# EAGLE library part BMI270 (library BGM220S)
IMU ACCEL/GYRO I2C/SPI 14LGA Check prices <https://pricing.snapeda.com/search/part/BMI270/?ref=eda>
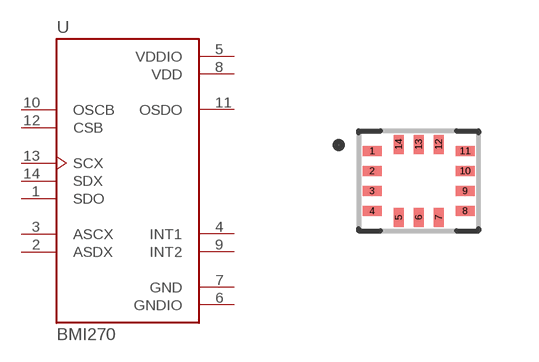
[diagram p7: symbol with the pads of XDCR_BMI270; footprint XDCR_BMI270]

Designator prefix U

## BMI270 (AVAILABILITY: Warning; DESCRIPTION: Accelerometer, Gyroscope, 6 Axis Sensor I²C, SPI Output; MF: Bosch Sensortec; MP: BMI270; PACKAGE: LGA-14 Bosch Sensortec; PRICE: None; PURCHASE-URL: https://pricing.snapeda.com/search/part/BMI270/?ref=eda)  [XDCR_BMI270]
1  SDO
2  ASDX
3  ASCX
4  INT1
5  VDDIO  pwr
6  GNDIO  pwr
7  GND  pwr
8  VDD  pwr
9  INT2
10  OSCB  in
11  OSDO  out
12  CSB  in
13  SCX  in
14  SDX

## Footprint XDCR_BMI270 (pad centres in mm)
smd 0.475 x 0.25: 1 -1.163,0.75; 2 -1.163,0.25; 3 -1.163,-0.25; 4 -1.163,-0.75; 8 1.163,-0.75; 9 1.163,-0.25; 10 1.163,0.25; 11 1.163,0.75
smd 0.25 x 0.475: 5 -0.5,-0.912; 6 0,-0.912; 7 0.5,-0.912; 12 0.5,0.912; 13 0,0.912; 14 -0.5,0.912